# Altium schematic symbol library SCH-RESET-R.SchLib: 2 symbols
Pins are listed as number, name and electrical type; pins without a type are passive.

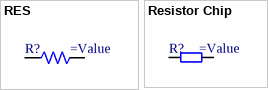
[diagram p0: symbols RES to Resistor Chip]

## RES
designator R?
pins: 1, 2

## Resistor Chip
designator R?
Resistor Chip
footprint Model Name (Footprint not found)
pins: 1, 2